# EAGLE library part ESP-WROOM-32_CHANGEPITCH (library esp32wroom32)
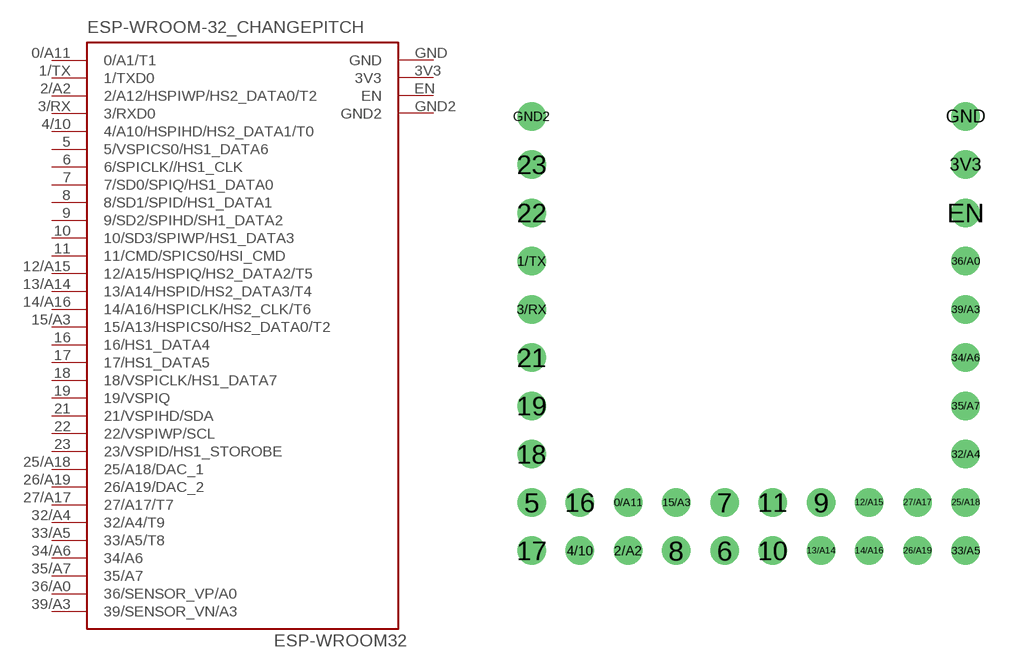
[diagram p0: symbol with the pads of ESP-WROOM-32; footprint ESP-WROOM-32]

Designator prefix -

## ESP-WROOM-32_CHANGEPITCH  [ESP-WROOM-32]
0/A11  0/A1/T1
1/TX  1/TXD0
2/A2  2/A12/HSPIWP/HS2_DATA0/T2
3/RX  3/RXD0
3V3  3V3
4/10  4/A10/HSPIHD/HS2_DATA1/T0
5  5/VSPICS0/HS1_DATA6
6  6/SPICLK//HS1_CLK
7  7/SD0/SPIQ/HS1_DATA0
8  8/SD1/SPID/HS1_DATA1
9  9/SD2/SPIHD/SH1_DATA2
10  10/SD3/SPIWP/HS1_DATA3
11  11/CMD/SPICS0/HSI_CMD
12/A15  12/A15/HSPIQ/HS2_DATA2/T5
13/A14  13/A14/HSPID/HS2_DATA3/T4
14/A16  14/A16/HSPICLK/HS2_CLK/T6
15/A3  15/A13/HSPICS0/HS2_DATA0/T2
16  16/HS1_DATA4
17  17/HS1_DATA5
18  18/VSPICLK/HS1_DATA7
19  19/VSPIQ
21  21/VSPIHD/SDA
22  22/VSPIWP/SCL
23  23/VSPID/HS1_STOROBE
25/A18  25/A18/DAC_1
26/A19  26/A19/DAC_2
27/A17  27/A17/T7
32/A4  32/A4/T9
33/A5  33/A5/T8
34/A6  34/A6
35/A7  35/A7
36/A0  36/SENSOR_VP/A0
39/A3  39/SENSOR_VN/A3
EN  EN
GND  GND
GND2  GND2

## Footprint ESP-WROOM-32 (pad centres in mm)
drill 1: 0/A11 -6.35,-8.89; 1/TX -11.43,3.81; 2/A2 -6.35,-11.43; 3/RX -11.43,1.27; 3V3 11.43,8.89; 4/10 -8.89,-11.43; 5 -11.43,-8.89; 6 -1.27,-11.43; 7 -1.27,-8.89; 8 -3.81,-11.43; 9 3.81,-8.89; 10 1.27,-11.43; 11 1.27,-8.89; 12/A15 6.35,-8.89; 13/A14 3.81,-11.43; 14/A16 6.35,-11.43; 15/A3 -3.81,-8.89; 16 -8.89,-8.89; 17 -11.43,-11.43; 18 -11.43,-6.35; 19 -11.43,-3.81; 21 -11.43,-1.27; 22 -11.43,6.35; 23 -11.43,8.89; 25/A18 11.43,-8.89; 26/A19 8.89,-11.43; 27/A17 8.89,-8.89; 32/A4 11.43,-6.35; 33/A5 11.43,-11.43; 34/A6 11.43,-1.27; 35/A7 11.43,-3.81; 36/A0 11.43,3.81; 39/A3 11.43,1.27; EN 11.43,6.35; GND 11.43,11.43; GND2 -11.43,11.43